# Altium schematic symbol library LDK320M-R.Schlib: 1 symbol
Pins are listed as number, name and electrical type; pins without a type are passive.

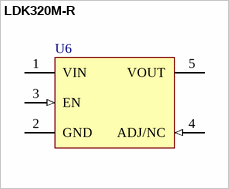
[diagram p0: symbol LDK320M-R]

## LDK320M-R
designator U6
pins: 1 VIN (power), 2 GND (power), 3 EN (in), 4 ADJ/NC (in), 5 VOUT (power)